# Altium schematic symbol library connector.SchLib: 6 symbols
Pins are listed as number, name and electrical type; pins without a type are passive.

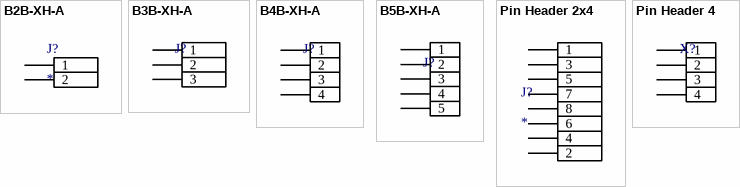
[diagram p0: symbols B2B-XH-A to Pin Header 4]

## B2B-XH-A
designator J?
Connector Header Through Hole 2 position 0.098 (2.50mm); MF: JST Sales; MP: B2B-XH-A(LF)(SN); SnapEDA_Link: https://www.snapeda.com/parts/B2B-XH-A(LF)(SN)/JST/view-part/?ref=snap; Package: None; Value: *; Check_prices: https://www.snapeda.com/parts/B2B-XH-A(LF)(SN)/JST/view-part/?ref=eda
footprint JST_B2B-XH-A
pins: 1, 2

## B3B-XH-A
designator J?  (value not drawn)
Connector Header Through Hole 3 position 0.098 (2.50mm); MF: JST Sales; MP: B3B-XH-A; SnapEDA_Link: https://www.snapeda.com/parts/B3B-XH-A/JST+Sales+America+Inc./view-part/?ref=snap; Package: None; Value: *; Check_prices: https://www.snapeda.com/parts/B3B-XH-A/JST+Sales+America+Inc./view-part/?ref=eda
footprint JST_B3B-XH-A
pins: 1, 2, 3

## B4B-XH-A
designator J?  (value not drawn)
Connector Header Through Hole 4 position 0.098 (2.50mm); MF: JST Sales; MP: B4B-XH-A; SnapEDA_Link: https://www.snapeda.com/parts/B4B-XH-A/JST/view-part/?ref=snap; Package: None; Value: *; Check_prices: https://www.snapeda.com/parts/B4B-XH-A/JST/view-part/?ref=eda
footprint JST_B4B-XH-A
pins: 1, 2, 3, 4

## B5B-XH-A
designator J?  (value not drawn)
Connector Header Through Hole 5 position 0.098 (2.50mm); MF: JST Sales; MP: B5B-XH-A; SnapEDA_Link: https://www.snapeda.com/parts/B5B-XH-A/JST+Sales+America+Inc./view-part/?ref=snap; Package: None; Value: *; Check_prices: https://www.snapeda.com/parts/B5B-XH-A/JST+Sales+America+Inc./view-part/?ref=eda
footprint JST_B5B-XH-A
pins: 1, 2, 3, 4, 5

## Pin Header 2x4
designator J?
Connector Header Through Hole 8 position 0.100 (2.54mm); MF: Samtec; MP: MTSW-104-07-T-D-240-LL; SnapEDA_Link: https://www.snapeda.com/parts/MTSW-104-07-T-D-240-LL/Samtec/view-part/?ref=snap; Package: None; Value: *; Check_prices: https://www.snapeda.com/parts/MTSW-104-07-T-D-240-LL/Samtec/view-part/?ref=eda
footprint Pin Header 2x4
pins: 1, 2, 3, 4, 5, 6, 7, 8

## Pin Header 4
designator X?  (value not drawn)
Connector Header Through Hole 8 position 0.100 (2.54mm); MP: MTSW-104-07-T-S-190; Value: *; Package: None; Price: None; Availability: Unavailable
footprint Pin Header 4
pins: 1, 2, 3, 4